# Altium integrated library Рез 1МОм.IntLib: 1 symbol
Pins are listed as number, name and electrical type; pins without a type are passive.

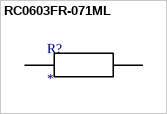
[diagram p0: symbol RC0603FR-071ML]

## RC0603FR-071ML
designator R?
1 MOhms Â±1% 0.1W, 1/10W Chip Resistor 0603 (1608 Metric) Moisture Resistant Thick Film; Типоразмер: 0603; Сопротивление: 1 МОм; Мощность: 0.1 Вт; Точность: 1%; Рабочее напряжение: 200 В; Ссылка: https://www.chipdip.ru/product/0.1vt-0603-1-mom-rc0603fr-071ml-chip-rezistor-smd-yageo-9000348749
footprint RESC1607X60N
pins: 1, 2